# Altium footprint library chip_2512_cs.PcbLib: 1 footprints
Each footprint in its own frame and in the unit in brackets; x right, y up, seen from the top. Pads: shape width x height; smd on the part's side, far side on the other; paste and mask are expansions set on the pad; w line width, h text height; cw(c..) or ccw(c..) is an arc to the next point about the centre after c.
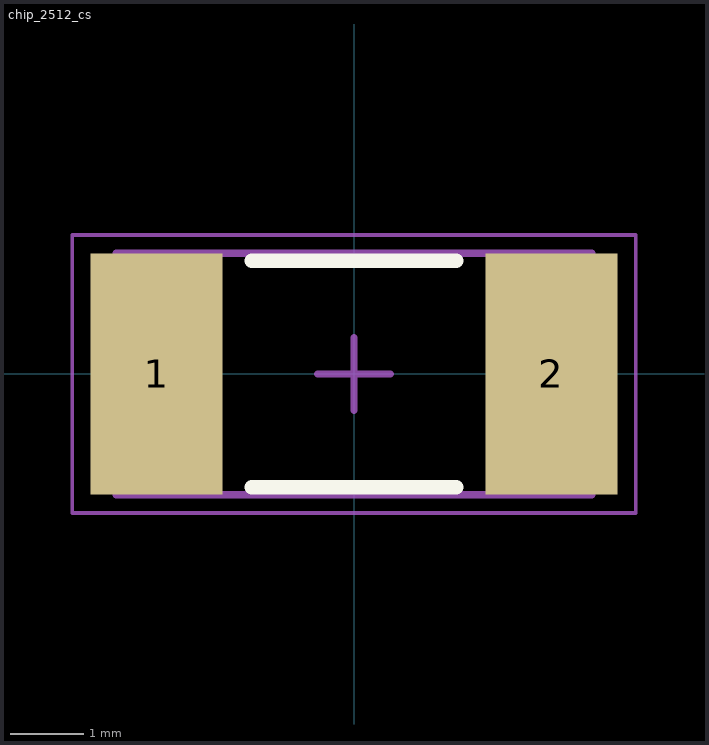
[diagram p0: the footprint, top view; thin cyan lines are the x and y axes]

## chip_2512_cs [mm]
height 0.6
pads (2):
  rect 1.8x3.3 smd: 1(-2.7,0) 2(2.7,0)
Top Overlay:
  lines w0.2: -1.4,-1.55 1.4,-1.55 ; -1.4,1.55 1.4,1.55
Mechanical 13:
  lines w0.1: -3.25,-1.65 3.25,-1.65 3.25,1.65 -3.25,1.65 -3.25,-1.65
Mechanical 15:
  lines w0.05: -3.85,-1.9 3.85,-1.9 3.85,1.9 -3.85,1.9 -3.85,-1.9
  lines w0.1: -0.5,0 0.5,0 ; 0,-0.5 0,0.5
3D body: height 0.6, standoff 0, extent 2.65,-1.65 3.25,1.65
3D body: height 0.6, standoff 0, extent -3.25,-1.65 -2.65,1.65
3D body: height 0.6, standoff 0, extent -2.65,-1.65 2.65,1.65